# Altium footprint library Fuse PCB.PcbLib: 6 footprints
Each footprint in its own frame and in the unit in brackets; x right, y up, seen from the top. Pads: shape width x height; smd on the part's side, far side on the other; paste and mask are expansions set on the pad; w line width, h text height; cw(c..) or ccw(c..) is an arc to the next point about the centre after c.
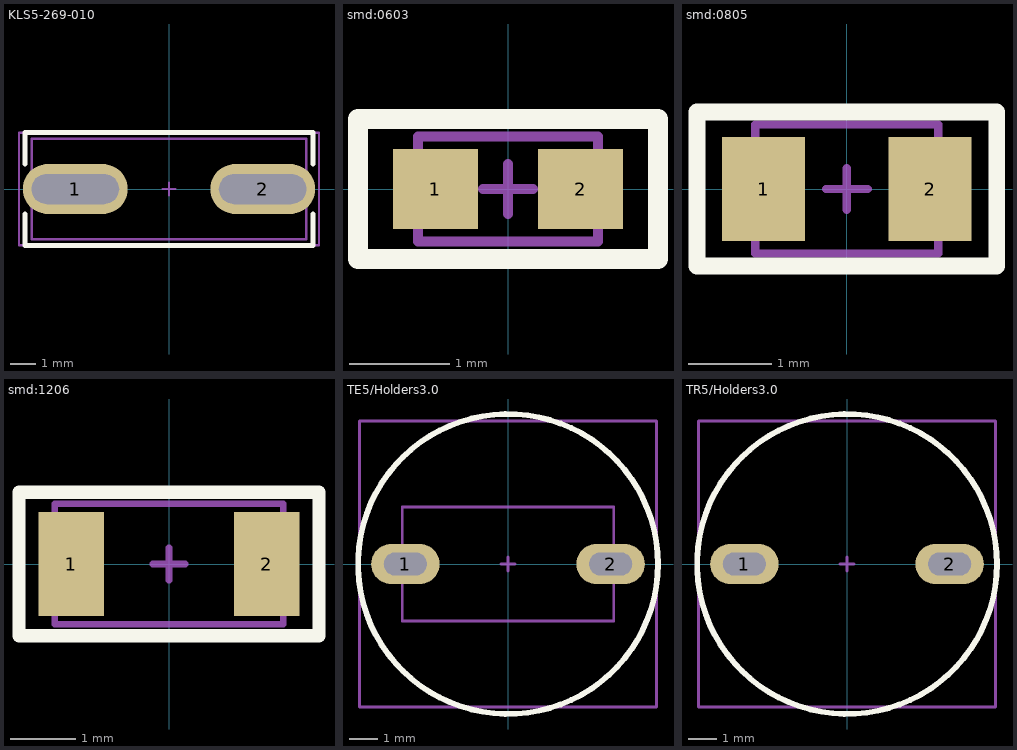
[diagram p0: the footprints below, top view; thin cyan lines are the x and y axes]

## KLS5-269-010 [mm]
pads (2):
  oval 4.2x2 hole 1.2 slot 3.5 at 0 deg: 1(-3.75,0) 2(3.75,0)
Top Overlay:
  lines w0.2: -5.75,-1 -5.75,-2.25 5.75,-2.25 5.75,-1 ; -5.75,1 -5.75,2.25 5.75,2.25 5.75,1
3D model:
  lines w0.1: -5.5,-2 -5.5,2 5.5,2 5.5,-2 -5.5,-2
Board:
  lines w0.1: -0.25,0 0.25,0 ; 0,-0.25 0,0.25 ; -6,-2.25 6,-2.25 6,2.25 -6,2.25 -6,-2.25
3D body "Mini car fuse.stp": height 10, standoff -6.6, extent -5.5,-2 5.5,2

## smd:0603 [mm]
pads (2):
  rect 0.85x0.8 smd: 1(-0.725,0) 2(0.725,0)
Top Overlay:
  lines w0.2: -1.5,-0.7 -1.5,0.7 1.5,0.7 1.5,-0.7 -1.5,-0.7
Top Assy:
  lines w0.1: -0.9,-0.525 0.9,-0.525 0.9,0.525 -0.9,0.525 -0.9,-0.525
Board:
  lines w0.1: -0.25,0 0.25,0 ; 0,-0.25 0,0.25 ; -1.5,-0.699 -1.5,0.7 1.5,0.7 1.5,-0.699 -1.5,-0.699
3D body "fuse_silicon_0603L.step": height 0.45, standoff 0, extent -0.9,-0.52 0.9,0.52

## smd:0805 [mm]
pads (2):
  rect 1x1.25 smd: 1(-1,0) 2(1,0)
Top Overlay:
  lines w0.2: -1.8,-0.925 -1.8,0.925 1.8,0.925 1.8,-0.925 -1.8,-0.925
Top Assy:
  lines w0.1: -1.1,-0.775 -1.1,0.775 1.1,0.775 1.1,-0.775 -1.1,-0.775
Board:
  lines w0.1: -0.25,0 0.25,0 ; 0,-0.25 0,0.25 ; -1.797,-0.924 -1.797,0.925 1.805,0.925 1.805,-0.924 -1.797,-0.924
3D body "fuse_silicon_0805L.step": height 0.5, standoff 0, extent -1.1,-0.77 1.1,0.77

## smd:1206 [mm]
pads (2):
  rect 1x1.6 smd: 1(-1.5,0) 2(1.5,0)
Top Overlay:
  lines w0.2: -2.3,-1.1 -2.3,1.1 2.3,1.1 2.3,-1.1 -2.3,-1.1
Top Assy:
  lines w0.1: -1.75,-0.925 -1.75,0.925 1.75,0.925 1.75,-0.925 -1.75,-0.925
Board:
  lines w0.1: -0.25,0 0.25,0 ; 0,-0.25 0,0.25 ; -2.3,-1.1 -2.3,1.1 2.3,1.1 2.3,-1.1 -2.3,-1.1
3D body "fuse_silicon_1206L.step": height 0.5, standoff 0, extent -1.75,-0.92 1.75,0.92

## TE5/Holders3.0 [mm]
pads (2):
  rrect100% 2.4x1.4 hole 0.8 slot 1.5 at 0 deg: 1(-3.59,0) 2(3.59,0)
Top Overlay:
  circle w0.2: c0,0 r5.25
Top Assy:
  lines w0.1: -5.2,-5 -5.2,5 5.2,5 5.2,-5 -5.2,-5 ; -3.7,-2 -3.7,2 3.7,2 3.7,-2 -3.7,-2
Board:
  circle w0.1: c0,0 r5.25
  lines w0.1: -0.25,0 0.25,0 ; 0,-0.25 0,0.25
3D body "Fuse 508 v1.step": height 11.3, standoff -0.5, extent -3.7,-2 3.7,2
3D body "Radial Leaded Fuse Holders 559 series H3.0mm.stp": height 3, standoff -3.8, extent -5.2,-5 5.2,5

## TR5/Holders3.0 [mm]
pads (2):
  rrect100% 2.4x1.4 hole 0.8 slot 1.5 at 0 deg: 1(-3.59,0) 2(3.59,0)
Top Overlay:
  circle w0.2: c0,0 r5.25
Top Assy:
  lines w0.1: -5.2,-5 5.2,-5 5.2,5 -5.2,5 -5.2,-5
Board:
  circle w0.1: c0,0 r5.25
  lines w0.1: -0.25,0 0.25,0 ; 0,-0.25 0,0.25
3D body "Radial Leaded Fuse Holders 559 series H3.0mm + fuse.stp": height 11.6, standoff -3.8, extent -5.2,-5 5.2,5